# EAGLE library part WL-SFTD_3535 (library w_led)
WL-SFTD SMD Full-color Top LED Diffused Characteristics Industry standard size 3535 Matte and non-reflective surface High reliability Low energy consumtion Low current requirement MSL 5a Water-resistant IPx6 Applications Outdoor Full-Color Video Screen Decorative lighting Entertainment LED display screen Indicator Backlight <http://katalog.we-online.de/media/images/v2/Family_WL-SFTD-3535_150353M253300.jpg> Details see: http://katalog.we-online.de/en/led/WL-SFTD?m Created by Yingchun Shan 2018-03-09 2018 (C) Wurth Elektronik
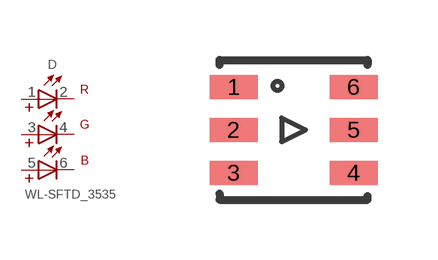
[diagram p1: symbol with the pads of WL-SFTD_3535; footprint WL-SFTD_3535]

Designator prefix D

## WL-SFTD_3535_150353M153300  [WL-SFTD_3535]
1  1  pas
2  R  pas
3  3  pas
4  G  pas
5  5  pas
6  B  pas

## Footprint WL-SFTD_3535 (pad centres in mm)
smd 1.2 x 0.6: 1 -1.5,1.075; 2 -1.5,0; 3 -1.5,-1.075; 4 1.5,-1.075; 5 1.5,0; 6 1.5,1.075